# EAGLE library part AD5206 (library IC_Data-Conversion)
6-Channel Digital Potentiometers Datasheet <https://www.analog.com/media/en/technical-documentation/data-sheets/ad5204_5206.pdf>
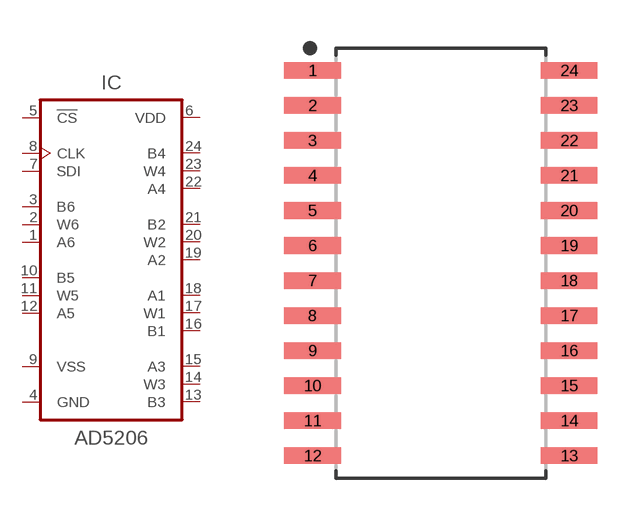
[diagram p10: symbol with the pads of SOIC127P1032X265-24N; footprint SOIC127P1032X265-24N]

Designator prefix IC

## AD5206BR50 (CATEGORY: IC_Data-Conversion; DESCRIPTION: 6-Channel Digital Potentiometers; MANUFACTURER: Analog Devices; MPN: AD5206BR50; OPERATING_TEMPERATURE: −40°C to +85°C; PART_STATUS: ACTIVE; ROHS_COMPLIANT: COMPLIANT; SERIES: AD5206; SUB_CATEGORY: Digital Potentiometer; VALUE: AD5206), AD5206BRZ10 (CATEGORY: IC_Data-Conversion; DESCRIPTION: 6-Channel Digital Potentiometers; MANUFACTURER: Analog Devices; MPN: AD5206BRZ10; OPERATING_TEMPERATURE: −40°C to +85°C; PART_STATUS: ACTIVE; ROHS_COMPLIANT: COMPLIANT; SERIES: AD5206; SUB_CATEGORY: Digital Potentiometer; VALUE: AD5206), AD5206BRZ100 (CATEGORY: IC_Data-Conversion; DESCRIPTION: 6-Channel Digital Potentiometers; MANUFACTURER: Analog Devices; MPN: AD5206BRZ100; OPERATING_TEMPERATURE: −40°C to +85°C; PART_STATUS: ACTIVE; ROHS_COMPLIANT: COMPLIANT; SERIES: AD5206; SUB_CATEGORY: Digital Potentiometer; VALUE: AD5206)  [SOIC127P1032X265-24N]
1  A6
2  W6
3  B6
4  GND  pwr
5  !CS  in
6  VDD  pwr
7  SDI  in
8  CLK  in
9  VSS  pwr
10  B5
11  W5
12  A5
13  B3
14  W3
15  A3
16  B1
17  W1
18  A1
19  A2
20  W2
21  B2
22  A4
23  W4
24  B4

## Footprint SOIC127P1032X265-24N (pad centres in mm)
24-SOIC, 1.27 mm pitch, 10.32 mm span, 15.40 X 7.50 X 2.65 mm body 24-pin SOIC package with 1.27 mm pitch, 10.32 mm span with body size 15.40 X 7.50 X 2.65 mm
smd 2.053 x 0.602: 1 -4.654,6.985; 2 -4.654,5.715; 3 -4.654,4.445; 4 -4.654,3.175; 5 -4.654,1.905; 6 -4.654,0.635; 7 -4.654,-0.635; 8 -4.654,-1.905; 9 -4.654,-3.175; 10 -4.654,-4.445; 11 -4.654,-5.715; 12 -4.654,-6.985; 13 4.654,-6.985; 14 4.654,-5.715; 15 4.654,-4.445; 16 4.654,-3.175; 17 4.654,-1.905; 18 4.654,-0.635; 19 4.654,0.635; 20 4.654,1.905; 21 4.654,3.175; 22 4.654,4.445; 23 4.654,5.715; 24 4.654,6.985